# Altium integrated library AltiumV15.IntLib: 1 symbol
Pins are listed as number, name and electrical type; pins without a type are passive.

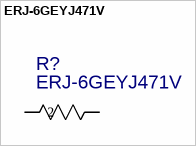
[diagram p0: symbol ERJ-6GEYJ471V]

## ERJ-6GEYJ471V
designator R?
C: Copyright (C) 2015 Accelerated Designs. All rights reserved; Vendor: Panasonic; Built_By: EMA_UL_Team; Manufacturer_Part_Number: ERJ-6GEYJ471V; Value: ERJ-6GEYJ471V
footprint RC0805N
pins: 1, 2
1 alternate drawing of the same symbol